# Altium schematic symbol library KC133A.SchLib: 1 symbol
Pins are listed as number, name and electrical type; pins without a type are passive.

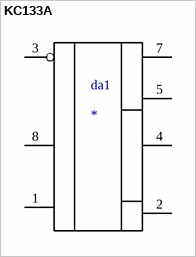
[diagram p0: symbol KC133A]

## KC133A
designator da1
footprint PCBComponent_1
pins: 1, 2, 3, 4, 5, 7, 8